# Altium schematic symbol library TLV76701DRVR.SchLib: 1 symbol
Pins are listed as number, name and electrical type; pins without a type are passive.

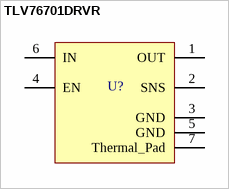
[diagram p0: symbol TLV76701DRVR]

## TLV76701DRVR
designator U?
LDO
pins: 1 OUT (power), 2 SNS, 3 GND (power), 4 EN, 5 GND (power), 6 IN (power), 7 Thermal_Pad (power)